# Altium schematic symbol library SCH - POWER - LINEAR VREG - TI LP2951D.SchLib: 1 symbol
Pins are listed as number, name and electrical type; pins without a type are passive.

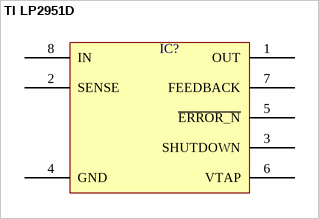
[diagram p0: symbol TI LP2951D]

## TI LP2951D
designator IC?  (value not drawn)
pins: 1 OUT, 2 SENSE, 3 SHUTDOWN, 4 GND, 5 ~{ERROR_N}, 6 VTAP, 7 FEEDBACK, 8 IN